# Altium schematic symbol library Capacitor-lib.SchLib: 5 symbols
Pins are listed as number, name and electrical type; pins without a type are passive.

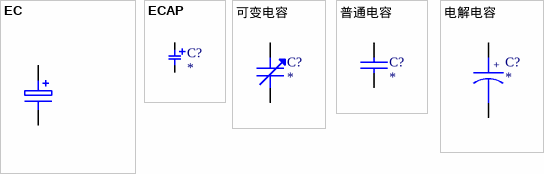
[diagram p0: symbols EC to 电解电容]

## EC
designator C?
footprint RB.1/.2
footprint RB.1/.2A
footprint RB.2/.4
footprint CD4
pins: 1, 2 E

## ECAP
designator C?
footprint CD4
footprint CD5
footprint CD6
footprint CD7
pins: 1, 2

## 可变电容
designator C?
Variable Capacitor
pins: 1, 2

## 普通电容
designator C?
Capacitor
footprint RAD0.1
footprint RAD0.2
footprint RAD0.3
pins: 1, 2

## 电解电容
designator C?
Capacitor
pins: 1, 2
text: +